# Altium schematic symbol library TOTUDU.SCHLIB: 75 symbols (part 2 of 2)
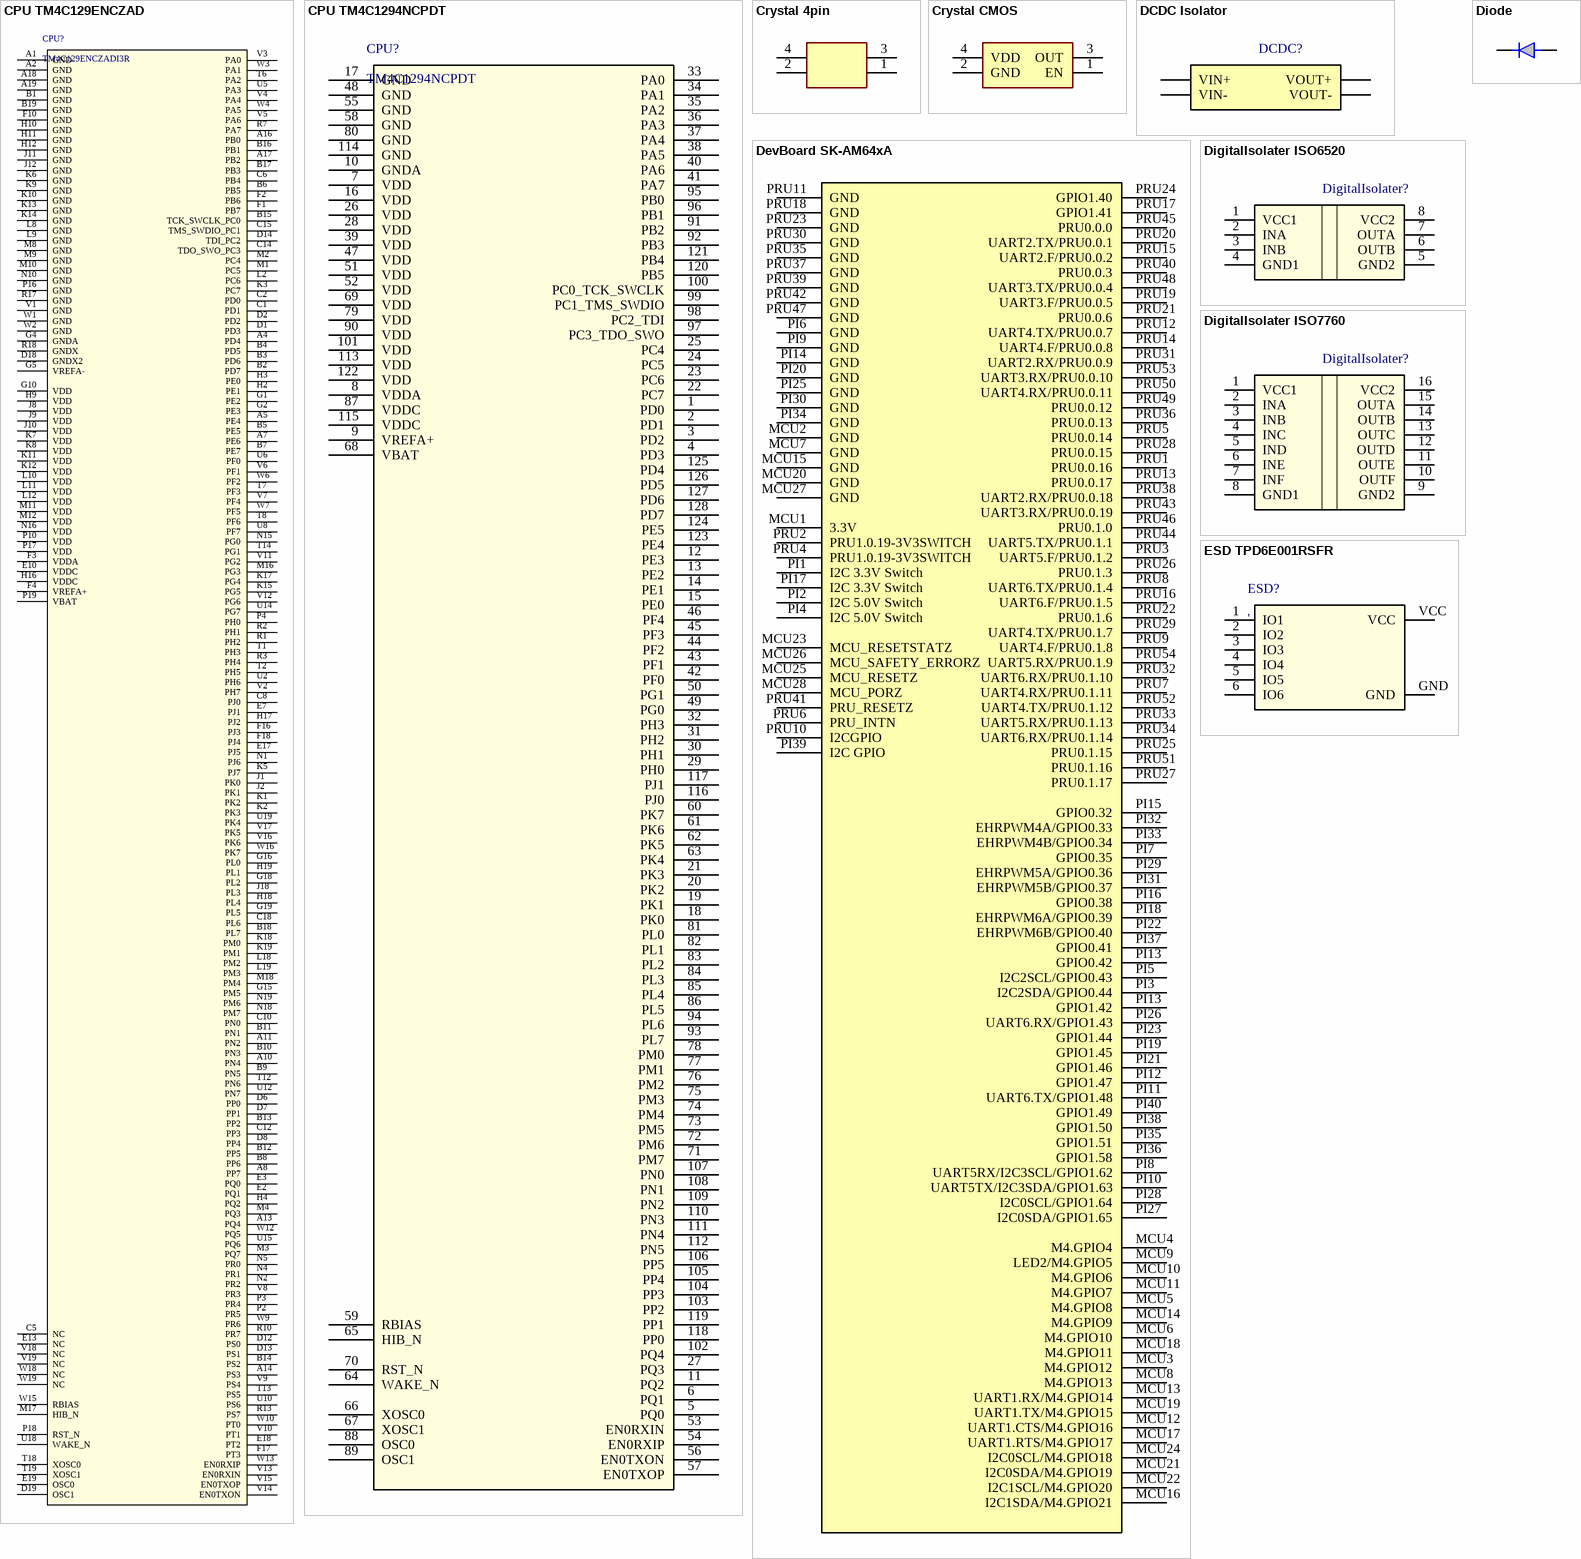
[diagram p6: symbols CPU TM4C129ENCZAD to ESD TPD6E001RSFR]

## DigitalIsolater ISO7760
designator DigitalIsolater?
6 Channel Digital Isolator; Manufacturer_Name: Texas Instruments; Manufacturer_Part_Number: ISO7760DBQ; TYPE: TYPE; RefDes: RefDes; Copyright: Copyright (C) 2025 Ultra Librarian. All rights reserved.; Datasheet: https://www.ti.com/lit/gpn/iso7760
footprint ISO7760DBQ
pins: 1 VCC1 (power), 2 INA, 3 INB, 4 INC, 5 IND, 6 INE, 7 INF, 8 GND1 (power), 9 GND2 (power), 10 OUTF, 11 OUTE, 12 OUTD, 13 OUTC, 14 OUTB, 15 OUTA, 16 VCC2 (power)

## Diode
designator D?
footprint 1N5819HW
footprint HS3MB
pins: 1 C, 2 A

## ESD TPD6E001RSFR
designator ESD?, comment '
ESD 6Channel; Mfr_Name: Texas Instruments; RefDes: RefDes; Type: Type
footprint ESD 6Channel UQFN
footprint ESD 6Channel WQFN (TPD6E001RSFR)
pins: 1 IO1, 2 IO2, 3 IO3, 4 IO4, 5 IO5, 6 IO6, GND, VCC

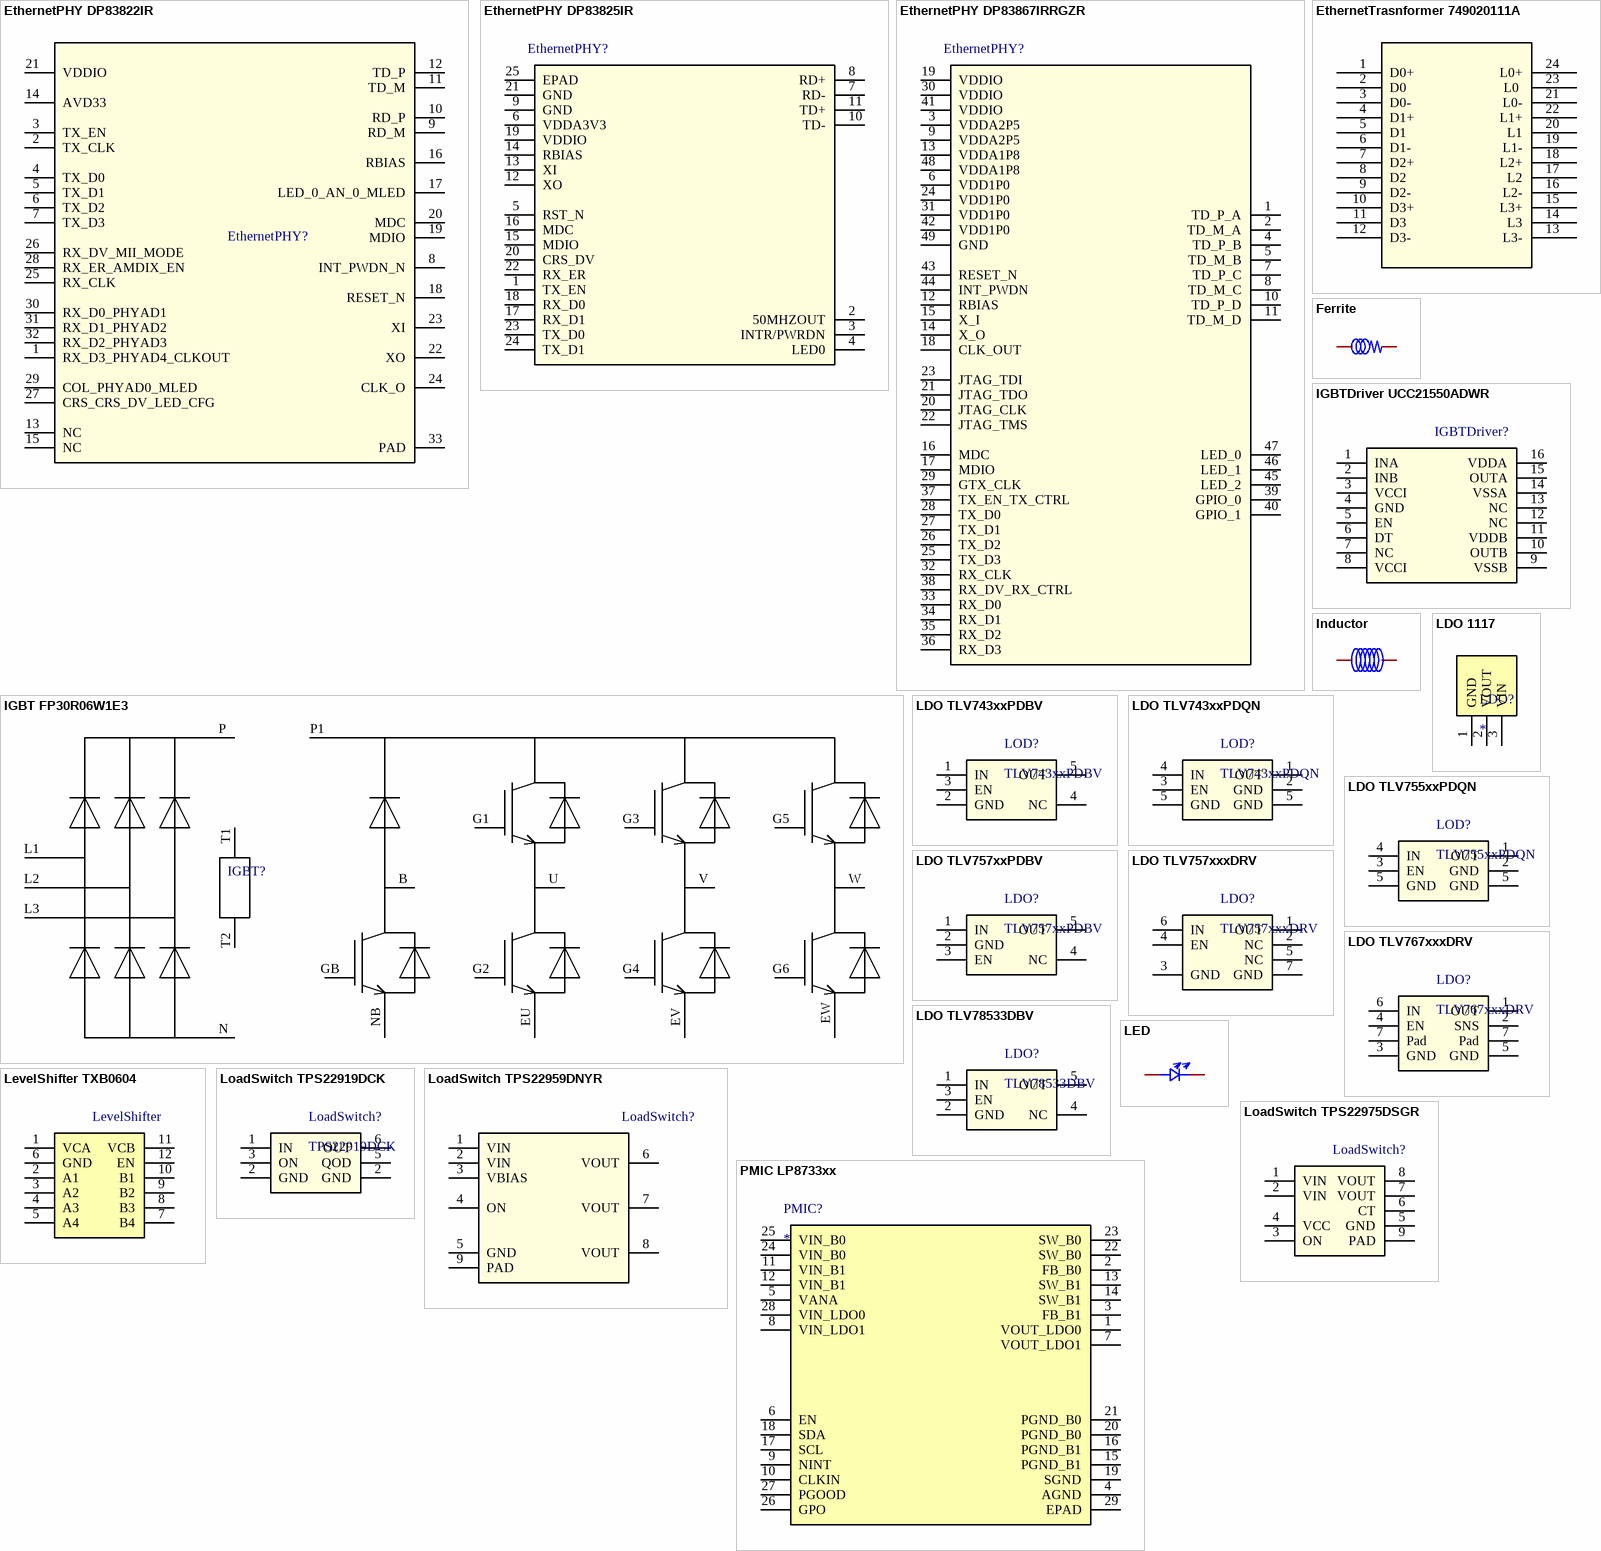
[diagram p3: symbols EthernetPHY DP83822IR to PMIC LP8733xx]

## EthernetPHY DP83822IR
designator EthernetPHY?
PHY 10/100 Mbps; Manufacturer_Name: Texas Instruments; Manufacturer_Part_Number: DP83822IRHBR; TYPE: TYPE; RefDes: RefDes; Copyright: Copyright (C) 2025 Ultra Librarian. All rights reserved.; Datasheet: https://www.ti.com/lit/gpn/dp83822i
footprint DP83822IRHBR
pins: 1 RX_D3_PHYAD4_CLKOUT, 2 TX_CLK, 3 TX_EN, 4 TX_D0, 5 TX_D1, 6 TX_D2, 7 TX_D3, 8 INT_PWDN_N, 9 RD_M, 10 RD_P, 11 TD_M, 12 TD_P, 13 NC, 14 AVD33, 15 NC, 16 RBIAS, 17 LED_0_AN_0_MLED, 18 RESET_N, 19 MDIO, 20 MDC, 21 VDDIO, 22 XO, 23 XI, 24 CLK_O, 25 RX_CLK, 26 RX_DV_MII_MODE, 27 CRS_CRS_DV_LED_CFG, 28 RX_ER_AMDIX_EN, 29 COL_PHYAD0_MLED, 30 RX_D0_PHYAD1, 31 RX_D1_PHYAD2, 32 RX_D2_PHYAD3, 33 PAD

## EthernetPHY DP83825IR
designator EthernetPHY?
PHY 10/100 Mbps; Manufacturer_Name: Texas Instruments; Manufacturer_Part_Number: DP83825IRMQR; Copyright: Copyright (C) 2025 Ultra Librarian. All rights reserved.; Datasheet: https://www.ti.com/lit/gpn/dp83825i; RefDes: RefDes; Type: Type
footprint DP83825IRMQR
pins: 1 TX_EN, 2 50MHZOUT, 3 INTR/PWRDN, 4 LED0, 5 RST_N, 6 VDDA3V3, 7 RD-, 8 RD+, 9 GND, 10 TD-, 11 TD+, 12 XO, 13 XI, 14 RBIAS, 15 MDIO, 16 MDC, 17 RX_D1, 18 RX_D0, 19 VDDIO, 20 CRS_DV, 21 GND, 22 RX_ER, 23 TX_D0, 24 TX_D1, 25 EPAD

## EthernetPHY DP83867IRRGZR
designator EthernetPHY?
PHY 10/100/1000 Mbps; Mfr_Name: Texas Instruments; PartNumber: DP83867IRRGZR; Alternate_PartNumber: DP83867IRRGZT; CompType: IC; TYPE: TYPE; RefDes: RefDes; Application_BuildNumber: *; PackageReference: RGZ0048B; MountType: SMT; RoHS: Y; Manufacturer: Texas Instruments
footprint DP83867IRRGZR
pins: 1 TD_P_A, 2 TD_M_A, 3 VDDA2P5, 4 TD_P_B, 5 TD_M_B, 6 VDD1P0, 7 TD_P_C, 8 TD_M_C, 9 VDDA2P5, 10 TD_P_D, 11 TD_M_D, 12 RBIAS, 13 VDDA1P8, 14 X_O, 15 X_I, 16 MDC, 17 MDIO, 18 CLK_OUT, 19 VDDIO, 20 JTAG_CLK, 21 JTAG_TDO, 22 JTAG_TMS, 23 JTAG_TDI, 24 VDD1P0, 25 TX_D3, 26 TX_D2, 27 TX_D1, 28 TX_D0, 29 GTX_CLK, 30 VDDIO, 31 VDD1P0, 32 RX_CLK, 33 RX_D0, 34 RX_D1, 35 RX_D2, 36 RX_D3, 37 TX_EN_TX_CTRL, 38 RX_DV_RX_CTRL, 39 GPIO_0, 40 GPIO_1, 41 VDDIO, 42 VDD1P0, 43 RESET_N, 44 INT_PWDN, 45 LED_2, 46 LED_1, 47 LED_0, 48 VDDA1P8, 49 GND

## EthernetTrasnformer 749020111A
designator EthernetTrasnformer?  (value not drawn)
EthernetTrasnformer; Mfr_Name: Wurth Electronics; RefDes: RefDes; Type: Type
footprint Ethernet Transformer 749020111A_WRE-L (749020111A_WRE-L)
pins: 1 D0+, 2 D0, 3 D0-, 4 D1+, 5 D1, 6 D1-, 7 D2+, 8 D2, 9 D2-, 10 D3+, 11 D3, 12 D3-, 13 L3-, 14 L3, 15 L3+, 16 L2-, 17 L2, 18 L2+, 19 L1-, 20 L1, 21 L0-, 22 L1+, 23 L0 , 24 L0+

## Ferrite
designator F?  (value not drawn)
footprint Ferrite 1005(0402)
footprint Ferrite 1608(0603)
footprint Ferrite 2012(0805)
pins: 1, 2

## IGBT FP30R06W1E3
designator IGBT?
IGBT FP30R06W1E3
footprint FP30R06W1E3
pins: B, EU, EV, EW, G1, G2, G3, G4, G5, G6, GB, L1, L2, L3, N, NB, P, P1, T1, T2, U, V, W

## IGBTDriver UCC21550ADWR
designator IGBTDriver?
Isolated Half Bridge Driver; Manufacturer_Name: Texas Instruments; Manufacturer_Part_Number: UCC21550ADWR; Type: Power Management; Copyright: Copyright (C) 2025 Ultra Librarian. All rights reserved.; Datasheet: https://www.ti.com/lit/gpn/ucc21550; RefDes: RefDes
footprint UCC21551ADWR
pins: 1 INA, 2 INB, 3 VCCI, 4 GND, 5 EN, 6 DT, 7 NC, 8 VCCI, 9 VSSB, 10 OUTB, 11 VDDB, 12 NC, 13 NC, 14 VSSA, 15 OUTA, 16 VDDA

## Inductor
designator L?
Inductor
footprint Inductor 2012(0805)
footprint Inductor 5.2x5.2
footprint Inductor 2016(0806)
footprint INDUCTOR 6.0x6.0x4.5
footprint MWSA0603S-2R2MT
pins: 1, 2

## LDO 1117
designator LDO?
LDO Generic
footprint LDO 1117
pins: 1 GND, 2 VOUT, 3 VIN

## LDO TLV743xxPDBV
designator LOD?, comment TLV743xxPDBV
LDO 300mA; Manufacturer_Name: Texas Instruments; Manufacturer_Part_Number: TLV743xxPDBV; Datasheet: https://www.ti.com/lit/gpn/tlv755p; Price: Rs. 9
footprint TLV743xxPDBV
pins: 1 IN, 2 GND, 3 EN, 4 NC, 5 OUT

## LDO TLV743xxPDQN
designator LOD?, comment TLV743xxPDQN
LDO 300mA; Manufacturer_Name: Texas Instruments; Manufacturer_Part_Number: TLV743xxPDQNR; Datasheet: https://www.ti.com/lit/gpn/tlv755p; Price: Rs. 10
footprint TLV743xxPDQN
pins: 1 OUT (power), 2 GND (power), 3 EN, 4 IN (power), 5 GND (power), 5 GND (power)

## LDO TLV755xxPDQN
designator LOD?, comment TLV755xxPDQN
LDO 500mA; Manufacturer_Name: Texas Instruments; Manufacturer_Part_Number: TLV755xxPDQNR; Datasheet: https://www.ti.com/lit/gpn/tlv755p; Price: Rs. 20
footprint TLV755xxPDQN
pins: 1 OUT (power), 2 GND (power), 3 EN, 4 IN (power), 5 GND (power), 5 GND (power)

## LDO TLV757xxPDBV
designator LDO?, comment TLV757xxPDBV
LDO 1A; Manufacturer_Name: Texas Instruments; Manufacturer_Part_Number: TLV75709PDRVR; Datasheet: https://www.ti.com/lit/gpn/tlv757p; Price: Rs. 34
footprint TLV757xxPDBV
pins: 1 IN, 2 GND, 3 EN, 4 NC, 5 OUT

## LDO TLV757xxxDRV
designator LDO?, comment TLV757xxxDRV
LDO 1A; Manufacturer_Name: Texas Instruments; Manufacturer_Part_Number: TLV75709PDRVR; Datasheet: https://www.ti.com/lit/gpn/tlv757p; Price: Rs. 34
footprint TLV757xxxPDRV
pins: 1 OUT, 2 NC, 3 GND, 4 EN, 5 NC, 6 IN, 7 GND

## LDO TLV767xxxDRV
designator LDO?, comment TLV767xxxDRV
LDO 1A; Manufacturer_Name: Texas Instruments; Manufacturer_Part_Number: TLV76701DRVR; Datasheet: https://www.ti.com/lit/gpn/tlv767; Price: Rs. 45
footprint TLV767xxDRVR
pins: 1 OUT, 2 SNS, 3 GND, 4 EN, 5 GND, 6 IN, 7 Pad, 7 Pad

## LDO TLV78533DBV
designator LDO?, comment TLV78533DBV
LDO 3.3V 500mA; Manufacturer_Name: Texas Instruments; Manufacturer_Part_Number: PTLV78533PDBVR; Datasheet: https://www.ti.com/lit/gpn/tlv785; Price: Rs. 8
footprint TLV785
pins: 1 IN, 2 GND, 3 EN, 4 NC, 5 OUT

## LED
designator LED?
LED
footprint LED 2012(0805)
pins: 1, 2

## LevelShifter TXB0604
designator LevelShifter
Auto-Direction 345Mbps
footprint Level Shifter TXB0604
pins: 1 VCA, 2 A1, 3 A2, 4 A3, 5 A4, 6 GND, 7 B4, 8 B3, 9 B2, 10 B1, 11 VCB, 12 EN

## LoadSwitch TPS22919DCK
designator LoadSwitch?, comment TPS22919DCK
1.5A; Manufacturer_Name: Texas Instruments; Manufacturer_Part_Number: PTPS22919DCKR; Datasheet: https://www.ti.com/lit/gpn/tps22919; Price: Rs. 13
footprint TPS22919DCK
pins: 1 IN (power), 2 GND (power), 2 GND (power), 3 ON, 5 QOD (power), 6 OUT (power)

## LoadSwitch TPS22959DNYR
designator LoadSwitch?
LoadSwitch TPS22959DNYR; Mfr_Name: Texas Instruments; CompType: IC; TYPE: TYPE; RefDes: RefDes; PartNumber: TPS22959DNY; PackageReference: DNY0008A; MountType: SMT; RoHS: Y; Manufacturer: Texas Instruments
footprint Switch TPS22959DNYR
pins: 1 VIN (power), 2 VIN (power), 3 VBIAS (power), 4 ON, 5 GND (power), 6 VOUT (power), 7 VOUT (power), 8 VOUT (power), 9 PAD (power)

## LoadSwitch TPS22975DSGR
designator LoadSwitch?
LoadSwitch 5.5V 6A; Manufacturer_Name: Texas Instruments; Manufacturer_Part_Number: TPS22975DSGR; TYPE: TYPE; RefDes: RefDes; Copyright: Copyright (C) 2025 Ultra Librarian. All rights reserved.; Datasheet: https://www.ti.com/lit/gpn/tps22975
footprint TPS22975DSGR
pins: 1 VIN (power), 2 VIN (power), 3 ON, 4 VCC, 5 GND (power), 6 CT, 7 VOUT (power), 8 VOUT (power), 9 PAD (power)

## PMIC LP8733xx
designator PMIC?
Mfr_Name: Texas Instruments; RefDes: RefDes; Type: Type
footprint PMIC LP8733xx
pins: 1 VOUT_LDO0, 2 FB_B0, 3 FB_B1, 4 AGND, 5 VANA, 6 EN, 7 VOUT_LDO1, 8 VIN_LDO1, 9 NINT, 10 CLKIN, 11 VIN_B1, 12 VIN_B1, 13 SW_B1, 14 SW_B1, 15 PGND_B1, 16 PGND_B1, 17 SCL, 18 SDA, 19 SGND, 20 PGND_B0, 21 PGND_B0, 22 SW_B0, 23 SW_B0, 24 VIN_B0, 25 VIN_B0, 26 GPO, 27 PGOOD, 28 VIN_LDO0, 29 EPAD

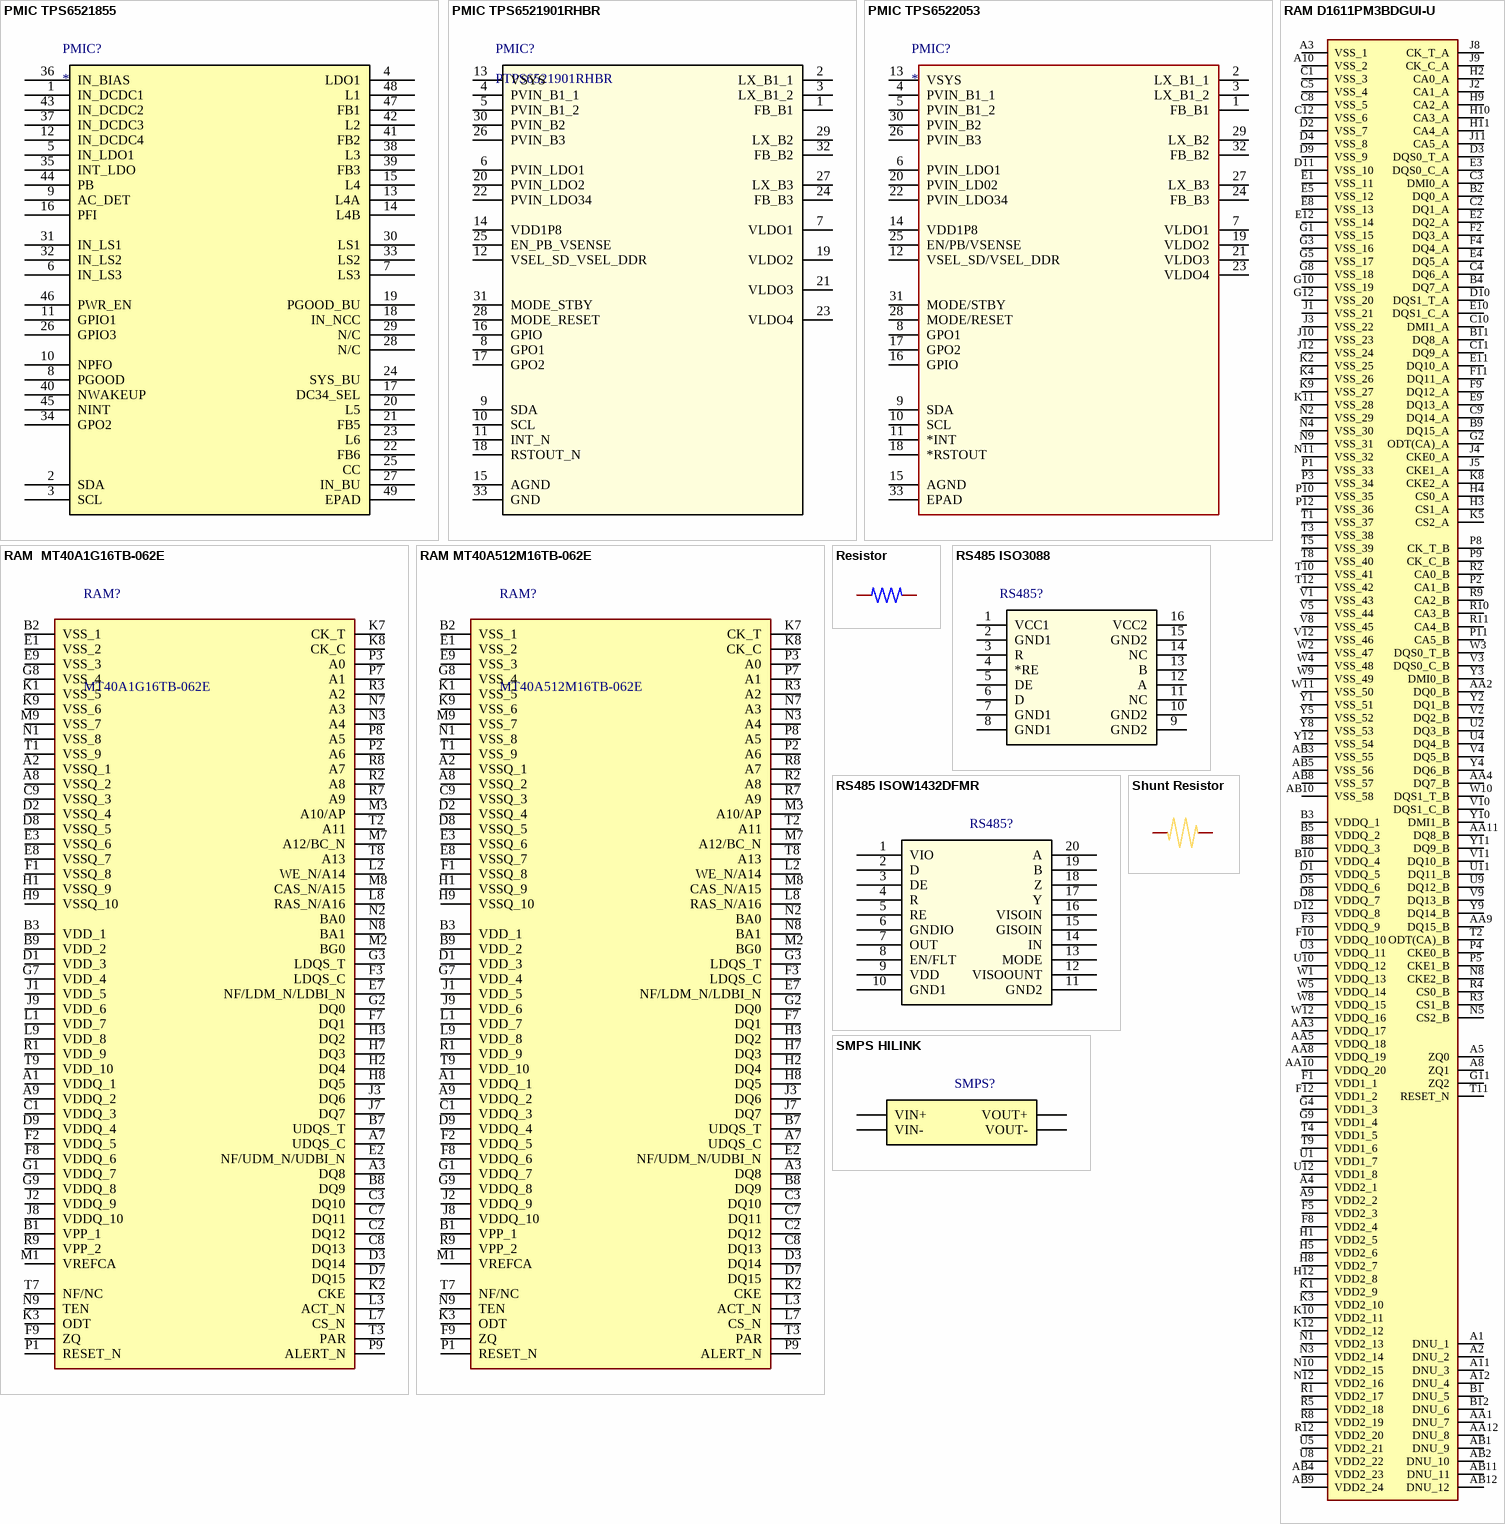
[diagram p4: symbols PMIC TPS6521855 to SMPS HILINK]

## PMIC TPS6521855
designator PMIC?
Mfr_Name: Texas Instruments; Type: Power Management; RefDes: RefDes
footprint PMIC TPS6521855
pins: 1 IN_DCDC1, 2 SDA, 3 SCL, 4 LDO1, 5 IN_LDO1, 6 IN_LS3, 7 LS3, 8 PGOOD, 9 AC_DET, 10 NPFO, 11 GPIO1, 12 IN_DCDC4, 13 L4A, 14 L4B, 15 L4, 16 PFI, 17 DC34_SEL, 18 IN_NCC, 19 PGOOD_BU, 20 L5, 21 FB5, 22 FB6, 23 L6, 24 SYS_BU, 25 CC, 26 GPIO3, 27 IN_BU, 28 N/C, 29 N/C, 30 LS1, 31 IN_LS1, 32 IN_LS2, 33 LS2, 34 GPO2, 35 INT_LDO, 36 IN_BIAS, 37 IN_DCDC3, 38 L3, 39 FB3, 40 NWAKEUP, 41 FB2, 42 L2, 43 IN_DCDC2, 44 PB, 45 NINT, 46 PWR_EN, 47 FB1, 48 L1, 49 EPAD

## PMIC TPS6521901RHBR
designator PMIC?, comment PTPS6521901RHBR
AM625 SIP PMIC; Manufacturer_Name: Texas Instruments; TYPE: TYPE; RefDes: RefDes; Copyright: Copyright (C) 2025 Ultra Librarian. All rights reserved.; Manufacturer_Part_Number: PTPS6521901RHBR
footprint PMIC TPS6521901RHBR
pins: 1 FB_B1, 2 LX_B1_1, 3 LX_B1_2, 4 PVIN_B1_1, 5 PVIN_B1_2, 6 PVIN_LDO1, 7 VLDO1, 8 GPO1, 9 SDA, 10 SCL, 11 INT_N, 12 VSEL_SD_VSEL_DDR, 13 VSYS, 14 VDD1P8, 15 AGND, 16 GPIO, 17 GPO2, 18 RSTOUT_N, 19 VLDO2, 20 PVIN_LDO2, 21 VLDO3, 22 PVIN_LDO34, 23 VLDO4, 24 FB_B3, 25 EN_PB_VSENSE, 26 PVIN_B3, 27 LX_B3, 28 MODE_RESET, 29 LX_B2, 30 PVIN_B2, 31 MODE_STBY, 32 FB_B2, 33 GND

## PMIC TPS6522053
designator PMIC?
AM64x PMIC; Mfr_Name: Texas Instruments; Type: Power Management; RefDes: RefDes
footprint PMIC TPS6522053
pins: 1 FB_B1, 2 LX_B1_1, 3 LX_B1_2, 4 PVIN_B1_1, 5 PVIN_B1_2, 6 PVIN_LDO1, 7 VLDO1, 8 GPO1, 9 SDA, 10 SCL, 11 *INT, 12 VSEL_SD/VSEL_DDR, 13 VSYS, 14 VDD1P8, 15 AGND, 16 GPIO, 17 GPO2, 18 *RSTOUT, 19 VLDO2, 20 PVIN_LD02, 21 VLDO3, 22 PVIN_LDO34, 23 VLDO4, 24 FB_B3, 25 EN/PB/VSENSE, 26 PVIN_B3, 27 LX_B3, 28 MODE/RESET, 29 LX_B2, 30 PVIN_B2, 31 MODE/STBY, 32 FB_B2, 33 EPAD

## RAM  MT40A1G16TB-062E
designator RAM?, comment MT40A1G16TB-062E
DDR4 2GB; Manufacturer_Name: Micron; Manufacturer_Part_Number: MT40A512M16TB-062E:R TR; Geometry.Height: 1.2mm; Mouser Part Number: 340-471779-REEL; Mouser Price/Stock: https://www.mouser.co.uk/ProductDetail/Micron/MT40A512M16TB-062ER-TR?qs=pUKx8fyJudDNqyh70x0%252Bew%3D%3D; Datasheet Link: https://media-www.micron.com/-/media/client/global/documents/products/data-sheet/dram/ddr4/8gb_ddr4_sdram.pdf?rev=cffebbea908d41b18dcfa6a807fa69e3
footprint MT40A1G16TB-062E
pins: A1 VDDQ_1, A2 VSSQ_1, A3 DQ8, A7 UDQS_C, A8 VSSQ_2, A9 VDDQ_2, B1 VPP_1, B2 VSS_1, B3 VDD_1, B7 UDQS_T, B8 DQ9, B9 VDD_2, C1 VDDQ_3, C2 DQ12, C3 DQ10, C7 DQ11, C8 DQ13, C9 VSSQ_3, D1 VDD_3, D2 VSSQ_4, D3 DQ14, D7 DQ15, D8 VSSQ_5, D9 VDDQ_4, E1 VSS_2, E2 NF/UDM_N/UDBI_N, E3 VSSQ_6, E7 NF/LDM_N/LDBI_N, E8 VSSQ_7, E9 VSS_3, F1 VSSQ_8, F2 VDDQ_5, F3 LDQS_C, F7 DQ1, F8 VDDQ_6, F9 ZQ, G1 VDDQ_7, G2 DQ0, G3 LDQS_T, G7 VDD_4, G8 VSS_4, G9 VDDQ_8, H1 VSSQ_9, H2 DQ4, H3 DQ2, H7 DQ3, H8 DQ5, H9 VSSQ_10, J1 VDD_5, J2 VDDQ_9, J3 DQ6, J7 DQ7, J8 VDDQ_10, J9 VDD_6, K1 VSS_5, K2 CKE, K3 ODT, K7 CK_T, K8 CK_C, K9 VSS_6, L1 VDD_7, L2 WE_N/A14, L3 ACT_N, L7 CS_N, L8 RAS_N/A16, L9 VDD_8, M1 VREFCA, M2 BG0, M3 A10/AP, M7 A12/BC_N, M8 CAS_N/A15, M9 VSS_7, N1 VSS_8, N2 BA0, N3 A4, N7 A3, N8 BA1, N9 TEN, P1 RESET_N, P2 A6, P3 A0, P7 A1, P8 A5, P9 ALERT_N, R1 VDD_9, R2 A8, R3 A2, R7 A9, R8 A7, R9 VPP_2, T1 VSS_9, T2 A11, T3 PAR, T7 NF/NC, T8 A13, T9 VDD_10

## RAM D1611PM3BDGUI-U
designator RAM?
RAM LPDDR4 2GB; MANUFACTURER_NAME: Kingston Technology; MANUFACTURER_PART_NUMBER: D1611PM3BDGUI-U; GateName_1: G$1; SymbolName_1: LPDDR4_D1611PM3BDGUI-U; LibraryName: TOTUDU; DeviceSetName: LPDDR4_D1611PM3BDGUI-U; Package: BGA200C65P12X22_1000X1450X80; HEIGHT: 0.8mm
footprint LPDDR4
pins: A1 DNU_1, A2 DNU_2, A3 VSS_1, A4 VDD2_1, A5 ZQ0, A8 ZQ1, A9 VDD2_2, A10 VSS_2, A11 DNU_3, A12 DNU_4, AA1 DNU_7, AA2 DQ0_B, AA3 VDDQ_17, AA4 DQ7_B, AA5 VDDQ_18, AA8 VDDQ_19, AA9 DQ15_B, AA10 VDDQ_20, AA11 DQ8_B, AA12 DNU_8, AB1 DNU_9, AB2 DNU_10, AB3 VSS_55, AB4 VDD2_23, AB5 VSS_56, AB8 VSS_57, AB9 VDD2_24, AB10 VSS_58, AB11 DNU_11, AB12 DNU_12, B1 DNU_5, B2 DQ0_A, B3 VDDQ_1, B4 DQ7_A, B5 VDDQ_2, B8 VDDQ_3, B9 DQ15_A, B10 VDDQ_4, B11 DQ8_A, B12 DNU_6, C1 VSS_3, C2 DQ1_A, C3 DMI0_A, C4 DQ6_A, C5 VSS_4, C8 VSS_5, C9 DQ14_A, C10 DMI1_A, C11 DQ9_A, C12 VSS_6, D1 VDDQ_5, D2 VSS_7, D3 DQS0_T_A, D4 VSS_8, D5 VDDQ_6, D8 VDDQ_7, D9 VSS_9, D10 DQS1_T_A, D11 VSS_10, D12 VDDQ_8, E1 VSS_11, E2 DQ2_A, E3 DQS0_C_A, E4 DQ5_A, E5 VSS_12, E8 VSS_13, E9 DQ13_A, E10 DQS1_C_A, E11 DQ10_A, E12 VSS_14, F1 VDD1_1, F2 DQ3_A, F3 VDDQ_9, F4 DQ4_A, F5 VDD2_3, F8 VDD2_4, F9 DQ12_A, F10 VDDQ_10, F11 DQ11_A, F12 VDD1_2, G1 VSS_15, G2 ODT(CA)_A, G3 VSS_16, G4 VDD1_3, G5 VSS_17, G8 VSS_18, G9 VDD1_4, G10 VSS_19, G11 ZQ2, G12 VSS_20, H1 VDD2_5, H2 CA0_A, H3 CS1_A, H4 CS0_A, H5 VDD2_6, H8 VDD2_7, H9 CA2_A, H10 CA3_A, H11 CA4_A, H12 VDD2_8, J1 VSS_21, J2 CA1_A, J3 VSS_22, J4 CKE0_A, J5 CKE1_A, J8 CK_T_A, J9 CK_C_A, J10 VSS_23, J11 CA5_A, J12 VSS_24, K1 VDD2_9, K2 VSS_25, K3 VDD2_10, K4 VSS_26, K5 CS2_A, K8 CKE2_A, K9 VSS_27, K10 VDD2_11, K11 VSS_28, K12 VDD2_12, N1 VDD2_13, N2 VSS_29, N3 VDD2_14, N4 VSS_30, N5 CS2_B, N8 CKE2_B, N9 VSS_31, N10 VDD2_15, N11 VSS_32, N12 VDD2_16, P1 VSS_33, P2 CA1_B, P3 VSS_34, P4 CKE0_B, P5 CKE1_B, P8 CK_T_B, P9 CK_C_B, P10 VSS_35, P11 CA5_B, P12 VSS_36, R1 VDD2_17, R2 CA0_B, R3 CS1_B, R4 CS0_B, R5 VDD2_18, R8 VDD2_19, R9 CA2_B, R10 CA3_B, R11 CA4_B, R12 VDD2_20, T1 VSS_37, T2 ODT(CA)_B, T3 VSS_38, T4 VDD1_5, T5 VSS_39, T8 VSS_40, T9 VDD1_6, T10 VSS_41, T11 RESET_N, T12 VSS_42, U1 VDD1_7, U2 DQ3_B, U3 VDDQ_11, U4 DQ4_B, U5 VDD2_21, U8 VDD2_22, U9 DQ12_B, U10 VDDQ_12, U11 DQ11_B, U12 VDD1_8, V1 VSS_43, V2 DQ2_B, V3 DQS0_C_B, V4 DQ5_B, V5 VSS_44, V8 VSS_45, V9 DQ13_B, V10 DQS1_C_B, V11 DQ10_B, V12 VSS_46, W1 VDDQ_13, W2 VSS_47, W3 DQS0_T_B, W4 VSS_48, W5 VDDQ_14, W8 VDDQ_15, W9 VSS_49, W10 DQS1_T_B, W11 VSS_50, W12 VDDQ_16, Y1 VSS_51, Y2 DQ1_B, Y3 DMI0_B, Y4 DQ6_B, Y5 VSS_52, Y8 VSS_53, Y9 DQ14_B, Y10 DMI1_B, Y11 DQ9_B, Y12 VSS_54

## RAM MT40A512M16TB-062E
designator RAM?, comment MT40A512M16TB-062E
DDR4 1GB; Manufacturer_Name: Micron; Manufacturer_Part_Number: MT40A512M16TB-062E:R TR; Geometry.Height: 1.2mm; Mouser Part Number: 340-471779-REEL; Mouser Price/Stock: https://www.mouser.co.uk/ProductDetail/Micron/MT40A512M16TB-062ER-TR?qs=pUKx8fyJudDNqyh70x0%252Bew%3D%3D; Datasheet Link: https://media-www.micron.com/-/media/client/global/documents/products/data-sheet/dram/ddr4/8gb_ddr4_sdram.pdf?rev=cffebbea908d41b18dcfa6a807fa69e3
footprint MT40A512M16TB-062E
pins: A1 VDDQ_1, A2 VSSQ_1, A3 DQ8, A7 UDQS_C, A8 VSSQ_2, A9 VDDQ_2, B1 VPP_1, B2 VSS_1, B3 VDD_1, B7 UDQS_T, B8 DQ9, B9 VDD_2, C1 VDDQ_3, C2 DQ12, C3 DQ10, C7 DQ11, C8 DQ13, C9 VSSQ_3, D1 VDD_3, D2 VSSQ_4, D3 DQ14, D7 DQ15, D8 VSSQ_5, D9 VDDQ_4, E1 VSS_2, E2 NF/UDM_N/UDBI_N, E3 VSSQ_6, E7 NF/LDM_N/LDBI_N, E8 VSSQ_7, E9 VSS_3, F1 VSSQ_8, F2 VDDQ_5, F3 LDQS_C, F7 DQ1, F8 VDDQ_6, F9 ZQ, G1 VDDQ_7, G2 DQ0, G3 LDQS_T, G7 VDD_4, G8 VSS_4, G9 VDDQ_8, H1 VSSQ_9, H2 DQ4, H3 DQ2, H7 DQ3, H8 DQ5, H9 VSSQ_10, J1 VDD_5, J2 VDDQ_9, J3 DQ6, J7 DQ7, J8 VDDQ_10, J9 VDD_6, K1 VSS_5, K2 CKE, K3 ODT, K7 CK_T, K8 CK_C, K9 VSS_6, L1 VDD_7, L2 WE_N/A14, L3 ACT_N, L7 CS_N, L8 RAS_N/A16, L9 VDD_8, M1 VREFCA, M2 BG0, M3 A10/AP, M7 A12/BC_N, M8 CAS_N/A15, M9 VSS_7, N1 VSS_8, N2 BA0, N3 A4, N7 A3, N8 BA1, N9 TEN, P1 RESET_N, P2 A6, P3 A0, P7 A1, P8 A5, P9 ALERT_N, R1 VDD_9, R2 A8, R3 A2, R7 A9, R8 A7, R9 VPP_2, T1 VSS_9, T2 A11, T3 PAR, T7 NF/NC, T8 A13, T9 VDD_10

## Resistor
designator R?
Resistor
footprint Resistor 2012(0805)
footprint Resistor 1608(0603)
footprint Resistor 1005(0402)
pins: 1, 2

## RS485 ISO3088
designator RS485?
RS485 Isolated TransReciever; Manufacturer_Name: Texas Instruments; Manufacturer_Part_Number: ISO3088DW; Copyright: Copyright (C) 2025 Ultra Librarian. All rights reserved.; Datasheet: https://www.ti.com/lit/gpn/iso3088; RefDes: RefDes; Type: Type
footprint ISO3088
pins: 1 VCC1 (power), 2 GND1 (power), 3 R, 4 *RE, 5 DE, 6 D, 7 GND1 (power), 8 GND1 (power), 9 GND2 (power), 10 GND2 (power), 11 NC, 12 A, 13 B, 14 NC, 15 GND2 (power), 16 VCC2 (power)

## RS485 ISOW1432DFMR
designator RS485?
Isolated RS485 With Integrated Isolated Power; Manufacturer_Name: Texas Instruments; Manufacturer_Part_Number: XISOW1432DFMR; Copyright: Copyright (C) 2025 Ultra Librarian. All rights reserved.; Datasheet: https://www.ti.com/lit/gpn/isow1432; RefDes: RefDes; Type: Type
footprint XISOW1432DFMR
pins: 1 VIO, 2 D, 3 DE, 4 R, 5 RE, 6 GNDIO, 7 OUT, 8 EN/FLT, 9 VDD, 10 GND1, 11 GND2, 12 VISOOUNT, 13 MODE, 14 IN, 15 GISOIN, 16 VISOIN, 17 Y, 18 Z, 19 B, 20 A

## Shunt Resistor
designator Shunt?
Resistor
footprint CG FL-U 40A
pins: 1, 2

## SMPS HILINK
designator SMPS?
footprint HILINK 10W
footprint HILINK 20W
pins: VIN+, VIN-, VOUT+, VOUT-

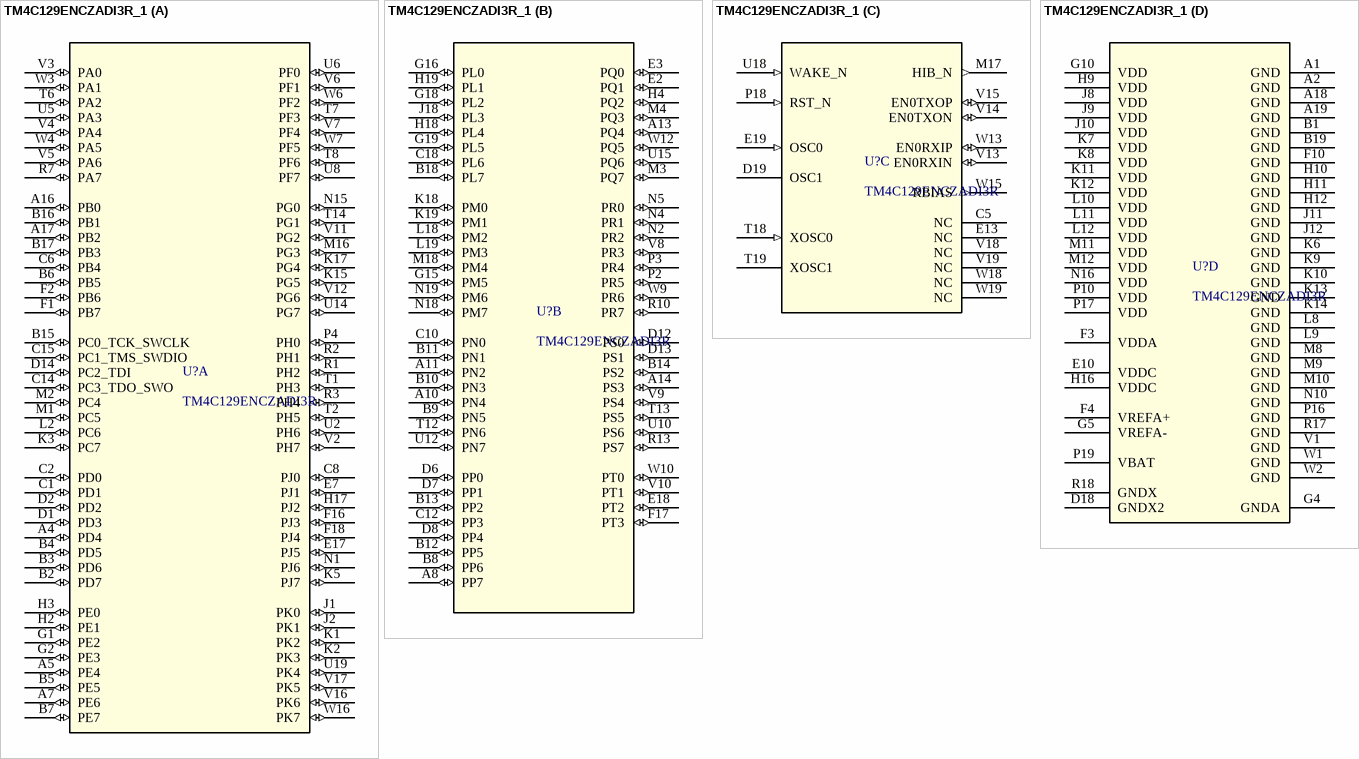
[diagram p5: symbol TM4C129ENCZADI3R_1]

## TM4C129ENCZADI3R_1
designator U?, comment TM4C129ENCZADI3R
32-bit Arm Cortex-M4F based MCU with 120-MHz, 1-MB Flash, 256-kb RAM, USB, ENET MAC+PHY, AES 212-NFBGA -40 to 85; Manufacturer_Name: Texas Instruments; CompType: IC; TYPE: TYPE; RefDes: RefDes; Copyright: Copyright (C) 2025 Ultra Librarian. All rights reserved.; Manufacturer_Part_Number: TM4C129ENCZADI3R; Datasheet: https://www.ti.com/lit/gpn/tm4c129enczad; Application_BuildNumber: *; PartNumber: TM4C129ENCZADI3R; PackageReference: ZAD0212A; MountType: SMT; RoHS: Y; Manufacturer: Texas Instruments
footprint ZAD0212A
part A pins: A4 PD4 (io), A5 PE4 (io), A7 PE6 (io), A16 PB0 (io), A17 PB2 (io), B2 PD7 (io), B3 PD6 (io), B4 PD5 (io), B5 PE5 (io), B6 PB5 (io), B7 PE7 (io), B15 PC0_TCK_SWCLK (io), B16 PB1 (io), B17 PB3 (io), C1 PD1 (io), C2 PD0 (io), C6 PB4 (io), C8 PJ0 (io), C14 PC3_TDO_SWO (io), C15 PC1_TMS_SWDIO (io), D1 PD3 (io), D2 PD2 (io), D14 PC2_TDI (io), E7 PJ1 (io), E17 PJ5 (io), F1 PB7 (io), F2 PB6 (io), F16 PJ3 (io), F18 PJ4 (io), G1 PE2 (io), G2 PE3 (io), H2 PE1 (io), H3 PE0 (io), H17 PJ2 (io), J1 PK0 (io), J2 PK1 (io), K1 PK2 (io), K2 PK3 (io), K3 PC7 (io), K5 PJ7 (io), K15 PG5 (io), K17 PG4 (io), L2 PC6 (io), M1 PC5 (io), M2 PC4 (io), M16 PG3 (io), N1 PJ6 (io), N15 PG0 (io), P4 PH0 (io), R1 PH2 (io), R2 PH1 (io), R3 PH4 (io), R7 PA7 (io), T1 PH3 (io), T2 PH5 (io), T6 PA2 (io), T7 PF3 (io), T8 PF6 (io), T14 PG1 (io), U2 PH6 (io), U5 PA3 (io), U6 PF0 (io), U8 PF7 (io), U14 PG7 (io), U19 PK4 (io), V2 PH7 (io), V3 PA0 (io), V4 PA4 (io), V5 PA6 (io), V6 PF1 (io), V7 PF4 (io), V11 PG2 (io), V12 PG6 (io), V16 PK6 (io), V17 PK5 (io), W3 PA1 (io), W4 PA5 (io), W6 PF2 (io), W7 PF5 (io), W16 PK7 (io)
part B pins: A8 PP7 (io), A10 PN4 (io), A11 PN2 (io), A13 PQ4 (io), A14 PS3 (io), B8 PP6 (io), B9 PN5 (io), B10 PN3 (io), B11 PN1 (io), B12 PP5 (io), B13 PP2 (io), B14 PS2 (io), B18 PL7 (io), C10 PN0 (io), C12 PP3 (io), C18 PL6 (io), D6 PP0 (io), D7 PP1 (io), D8 PP4 (io), D12 PS0 (io), D13 PS1 (io), E2 PQ1 (io), E3 PQ0 (io), E18 PT2 (io), F17 PT3 (io), G15 PM5 (io), G16 PL0 (io), G18 PL2 (io), G19 PL5 (io), H4 PQ2 (io), H18 PL4 (io), H19 PL1 (io), J18 PL3 (io), K18 PM0 (io), K19 PM1 (io), L18 PM2 (io), L19 PM3 (io), M3 PQ7 (io), M4 PQ3 (io), M18 PM4 (io), N2 PR2 (io), N4 PR1 (io), N5 PR0 (io), N18 PM7 (io), N19 PM6 (io), P2 PR5 (io), P3 PR4 (io), R10 PR7 (io), R13 PS7 (io), T12 PN6 (io), T13 PS5 (io), U10 PS6 (io), U12 PN7 (io), U15 PQ6 (io), V8 PR3 (io), V9 PS4 (io), V10 PT1 (io), W9 PR6 (io), W10 PT0 (io), W12 PQ5 (io)
part C pins: C5 NC, D19 OSC1, E13 NC, E19 OSC0 (in), M17 HIB_N (out), P18 RST_N (in), T18 XOSC0 (in), T19 XOSC1, U18 WAKE_N (in), V13 EN0RXIN (io), V14 EN0TXON (io), V15 EN0TXOP (io), V18 NC, V19 NC, W13 EN0RXIP (io), W15 RBIAS (out), W18 NC, W19 NC
part D pins: A1 GND (power), A2 GND (power), A18 GND (power), A19 GND (power), B1 GND (power), B19 GND (power), D18 GNDX2 (power), E10 VDDC (power), F3 VDDA (power), F4 VREFA+ (power), F10 GND (power), G4 GNDA (power), G5 VREFA- (power), G10 VDD (power), H9 VDD (power), H10 GND (power), H11 GND (power), H12 GND (power), H16 VDDC (power), J8 VDD (power), J9 VDD (power), J10 VDD (power), J11 GND (power), J12 GND (power), K6 GND (power), K7 VDD (power), K8 VDD (power), K9 GND (power), K10 GND (power), K11 VDD (power), K12 VDD (power), K13 GND (power), K14 GND (power), L8 GND (power), L9 GND (power), L10 VDD (power), L11 VDD (power), L12 VDD (power), M8 GND (power), M9 GND (power), M10 GND (power), M11 VDD (power), M12 VDD (power), N10 GND (power), N16 VDD (power), P10 VDD (power), P16 GND (power), P17 VDD (power), P19 VBAT (power), R17 GND (power), R18 GNDX (power), V1 GND (power), W1 GND (power), W2 GND (power)